# EAGLE library part HT82K629A-40DIPLF (library holtekICKeyboardEncodersPS2)
Windows 2000 PS/2 and USB Keyboard Encoder http://www.farnell.com/datasheets/79209.pdf?_ga=1.116240582.1758790534.1480338308 http://www.holtek.com.tw/documents/10179/116711/82k629av160.pdf http://www.holtek.com.tw/documents/10179/116677/82k629a.pdf
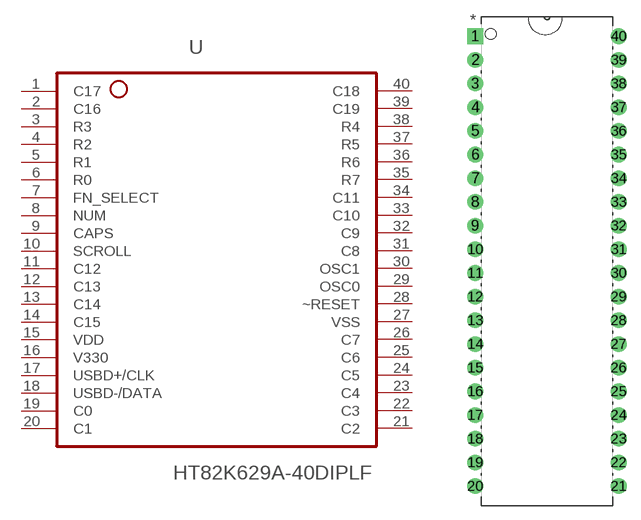
[diagram p1: symbol with the pads of DIP-40; footprint DIP-40]

Designator prefix U

## HT82K629A-40DIPLF (MPN: HT82K629A-40DIPLF; OC_FARNELL: 1420877; OC_NEWARK: 53M7846; PACKAGE: DIP-40; SUPPLIER: HOLTEK), HT82K629A-40DIPLFSSOP (MPN: Unknown; OC_FARNELL: Unknown; OC_NEWARK: Unknown; PACKAGE: SSOP-48; SUPPLIER: HOLTEK)  [DIP-40]
1  C17  out
2  C16  out
3  R3  out
4  R2  out
5  R1  out
6  R0  out
7  FN_SELECT  in
8  NUM  out
9  CAPS  out
10  SCROLL  out
11  C12  out
12  C13  out
13  C14  out
14  C15  out
15  VDD  pwr
16  V330  nc
17  USBD+/CLK  in
18  USBD-/DATA
19  C0  in
20  C1  in
21  C2  in
22  C3  in
23  C4  in
24  C5  in
25  C6  in
26  C7  in
27  VSS  pwr
28  ~RESET  in
29  OSC0  in
30  OSC1  in
31  C8  in
32  C9  out
33  C10  out
34  C11  out
35  R7  out
36  R6  out
37  R5  out
38  R4  out
39  C19  out
40  C18  out

## Footprint DIP-40 (pad centres in mm)
drill 1.118 square: 1 -15.367,48.26
drill 1.118: 2 -15.367,45.72; 3 -15.367,43.18; 4 -15.367,40.64; 5 -15.367,38.1; 6 -15.367,35.56; 7 -15.367,33.02; 8 -15.367,30.48; 9 -15.367,27.94; 10 -15.367,25.4; 11 -15.367,22.86; 12 -15.367,20.32; 13 -15.367,17.78; 14 -15.367,15.24; 15 -15.367,12.7; 16 -15.367,10.16; 17 -15.367,7.62; 18 -15.367,5.08; 19 -15.367,2.54; 20 -15.367,0; 21 0,0; 22 0,2.54; 23 0,5.08; 24 0,7.62; 25 0,10.16; 26 0,12.7; 27 0,15.24; 28 0,17.78; 29 0,20.32; 30 0,22.86; 31 0,25.4; 32 0,27.94; 33 0,30.48; 34 0,33.02; 35 0,35.56; 36 0,38.1; 37 0,40.64; 38 0,43.18; 39 0,45.72; 40 0,48.26